# Altium schematic symbol library OKI-78SR-5_1.5-W36-C.SchLib: 1 symbol
Pins are listed as number, name and electrical type; pins without a type are passive.

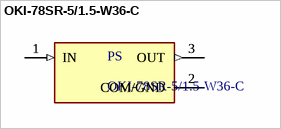
[diagram p0: symbol OKI-78SR-5/1.5-W36-C]

## OKI-78SR-5/1.5-W36-C
designator PS
Linear Regulator Replacement DC DC Converter 1 Output 5V 1.5A 7V - 36V Input; MF: Murata Power; Availability: Unavailable; Price: None; Package: SIP-3 Murata Power; Value: *; SnapEDA_Link: https://www.snapeda.com/parts/OKI-78SR-5/1.5-W36-C/Murata%20Power%20Solutions%20Inc./view-part/229597/?ref=snap; MP: OKI-78SR-5/1.5-W36-C
footprint CONV_OKI-78SR-5/1.5-W36-C
pins: 1 IN (in), 1 IN (in), 2 COM/GND (power), 2 COM/GND (power), 3 OUT (out), 3 OUT (out)